# EAGLE library part RG12864C (library mgr_components)
RG12864C 128 X 64 Dots Graphic Source: http://www.raystar-optronics.com/
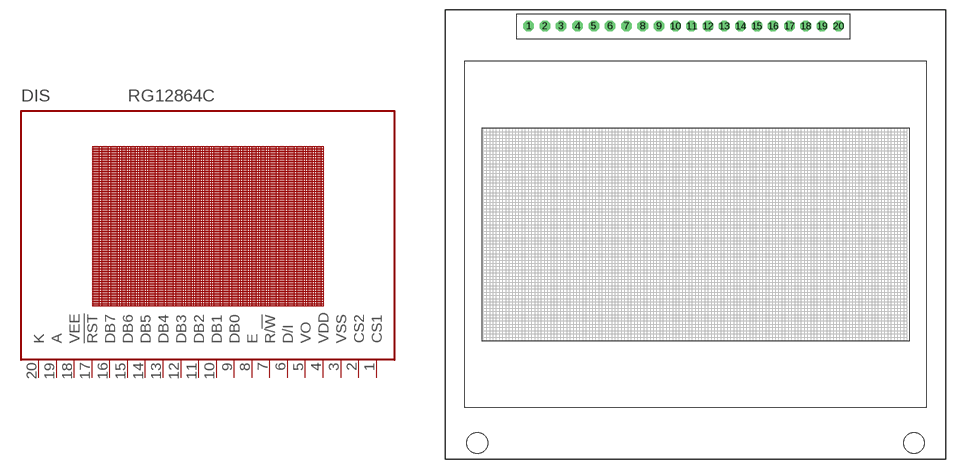
[diagram p3: symbol with the pads of RG12864C; footprint RG12864C]

Designator prefix DIS

## RG12864C (OC_FARNELL: unknown; OC_NEWARK: unknown)  [RG12864C]
1  CS1
2  CS2
3  VSS  pwr
4  VDD  pwr
5  VO  pas
6  D/I  in
7  R/!W
8  E
9  DB0
10  DB1
11  DB2
12  DB3
13  DB4
14  DB5
15  DB6  in
16  DB7  in
17  !RST  in
18  VEE  out
19  A  pas
20  K  pas

## Footprint RG12864C (pad centres in mm)
GR12864C 128 X 64 Dots Graphic Source: http://www.raystar-optronics.com/
drill 1.1 octagon: 1 -26,32.46; 2 -23.46,32.46; 3 -20.92,32.46; 4 -18.38,32.46; 5 -15.84,32.46; 6 -13.3,32.46; 7 -10.76,32.46; 8 -8.22,32.46; 9 -5.68,32.46; 10 -3.14,32.46; 11 -0.6,32.46; 12 1.94,32.46; 13 4.48,32.46; 14 7.02,32.46; 15 9.56,32.46; 16 12.1,32.46; 17 14.64,32.46; 18 17.18,32.46; 19 19.72,32.46; 20 22.26,32.46
hole 3.2 at 34,-32.5
hole 3.2 at -34,-32.5